# EAGLE library part ETHERNET_DEV (library Blizzard_Library)
380-1244-ND
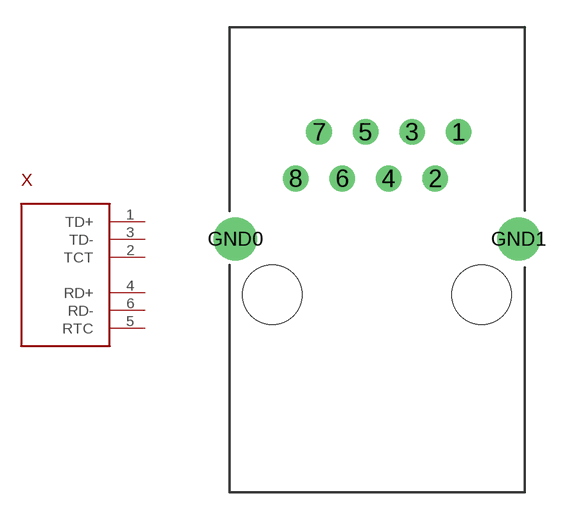
[diagram p19: symbol with the pads of ETHERNET_PKG; footprint ETHERNET_PKG]

Designator prefix X

## ETHERNET_DEV  [ETHERNET_PKG]
1  TD+
2  TCT
3  TD-
4  RD+
5  RTC
6  RD-

## Footprint ETHERNET_PKG (pad centres in mm)
380-1244-ND
drill 0.89: 1 4.45,8.885; 2 3.18,6.345; 3 1.91,8.885; 4 0.64,6.345; 5 -0.63,8.885; 6 -1.9,6.345; 7 -3.17,8.885; 8 -4.44,6.345
drill 1.57: GND0 -7.745,3.045; GND1 7.745,3.045
hole 3.25 at -5.715,-0.005
hole 3.25 at 5.715,-0.005